# EAGLE library part LT1115CN8#PBF (library LT1115CN8#PBF)
OP Amp Single GP +/-22V 8-Pin PDIP N Source: Datasheet <https://www.arrow.com/en/products/lt1115cn8pbf/linear-technology>
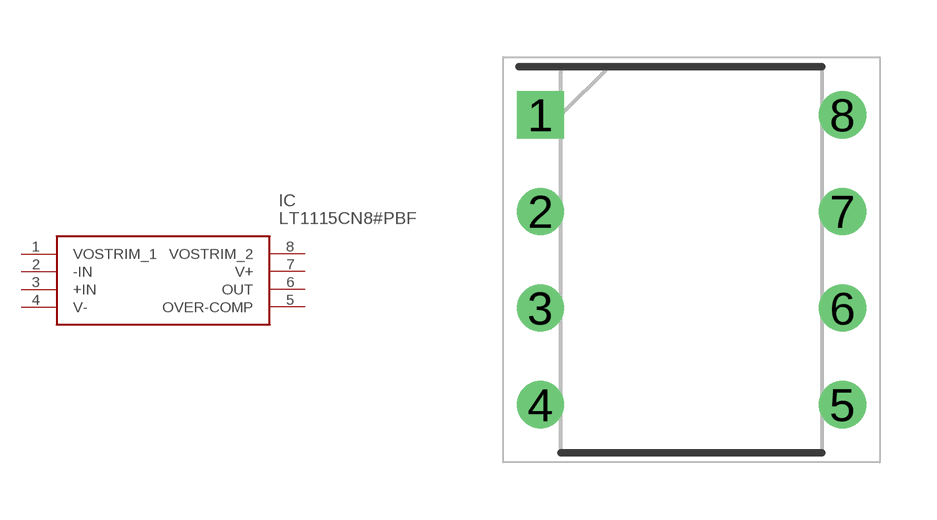
[diagram p0: symbol with the pads of DIP794W53P254L1016H394Q8N; footprint DIP794W53P254L1016H394Q8N]

Designator prefix IC

## LT1115CN8#PBF (Description: OP Amp Single GP +/-22V 8-Pin PDIP N; Height: 3.937mm; Manufacturer_Name: Analog Devices; Manufacturer_Part_Number: LT1115CN8#PBF; Mouser_Part_Number: 584-LT1115CN8#PBF; Mouser_Price-Stock: https://www.mouser.co.uk/ProductDetail/Analog-Devices/LT1115CN8PBF?qs=ytflclh7QUWk8x4PZzUG3w%3D%3D)  [DIP794W53P254L1016H394Q8N]
1  VOSTRIM_1
2  -IN
3  +IN
4  V-
5  OVER-COMP
6  OUT
7  V+
8  VOSTRIM_2

## Footprint DIP794W53P254L1016H394Q8N (pad centres in mm)
N8 8-Lead PDIP
drill 0.733 pad 1.133 square: 1 -3.969,3.81
drill 0.733 pad 1.133: 2 -3.969,1.27; 3 -3.969,-1.27; 4 -3.969,-3.81; 5 3.969,-3.81; 6 3.969,-1.27; 7 3.969,1.27; 8 3.969,3.81